# Altium footprint library PCB - CAPACITOR - ELECTROLYTIC - CAPAE1270X1400N.PCBLIB: 1 footprints
Each footprint in its own frame and in the unit in brackets; x right, y up, seen from the top. Pads: shape width x height; smd on the part's side, far side on the other; paste and mask are expansions set on the pad; w line width, h text height; cw(c..) or ccw(c..) is an arc to the next point about the centre after c.
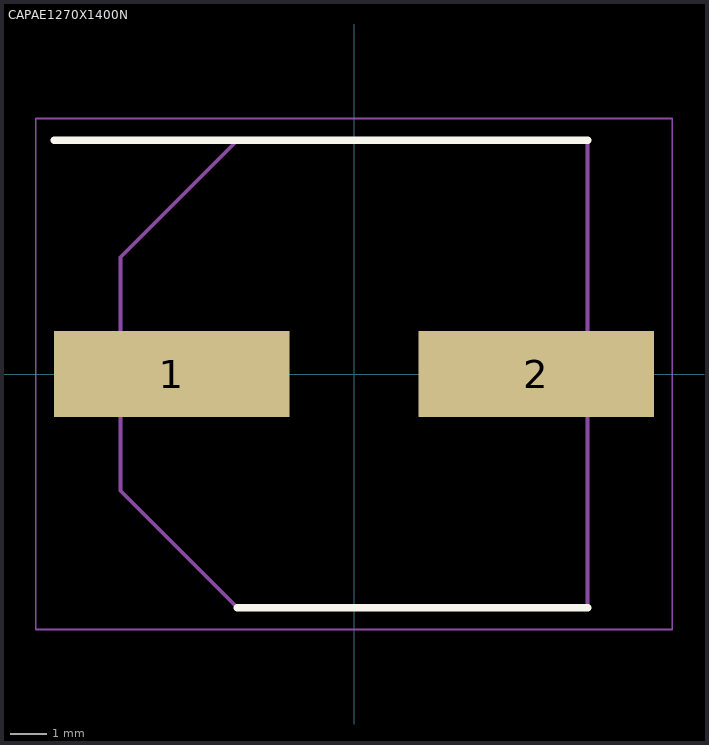
[diagram p0: the footprint, top view; thin cyan lines are the x and y axes]

## CAPAE1270X1400N [mm]
pads (2):
  rect 6.4x2.35 smd: 1(-4.95,0) 2(4.95,0)
Top Overlay:
  lines w0.2: -8.15,6.35 6.35,6.35 ; -3.175,-6.35 6.35,-6.35
Top Assembly:
  lines w0.1: -6.35,-3.175 -6.35,3.175 -3.175,6.35 6.35,6.35 6.35,-6.35 -3.175,-6.35 -6.35,-3.175
Top Courtyard:
  lines w0.05: -8.65,-6.95 -8.65,6.95 8.65,6.95 8.65,-6.95 -8.65,-6.95
3D body "MAL216099101E3.stp": height 14, standoff 0, extent -7.45,-6.45 7.45,6.45